# Altium footprint library Z0XW18.PcbLib: 1 footprints
Each footprint in its own frame and in the unit in brackets; x right, y up, seen from the top. Pads: shape width x height; smd on the part's side, far side on the other; paste and mask are expansions set on the pad; w line width, h text height; cw(c..) or ccw(c..) is an arc to the next point about the centre after c.
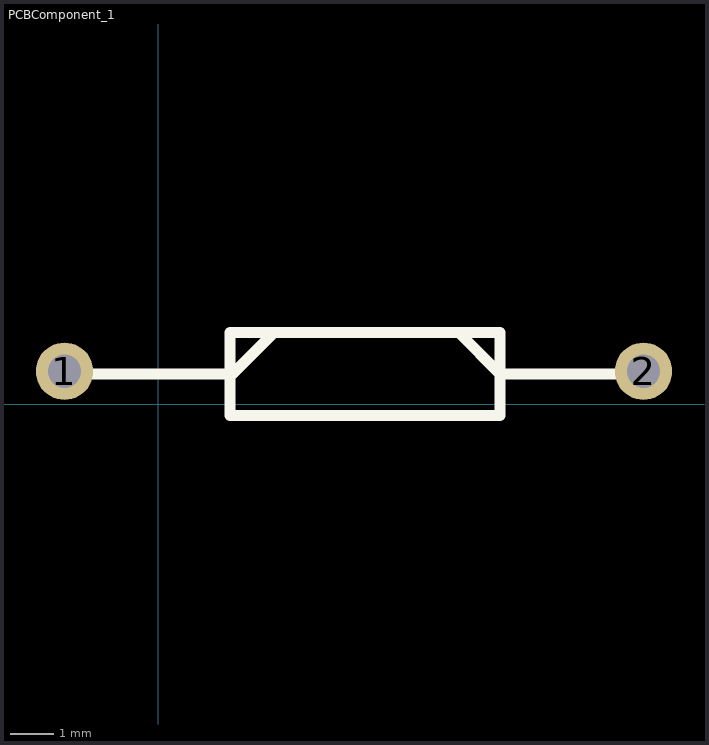
[diagram p0: the footprint, top view; thin cyan lines are the x and y axes]

## PCBComponent_1 [mil]
pads (2):
  round 52 hole 30: 1(-85,30) 2(440,30)
Top Overlay:
  lines w10: -72.5,27.5 65,27.5 67.5,27.5 105,65 ; 265,65 272.5,65 310,27.5 427.5,27.5 ; 65,-10 310,-10 310,65 65,65 65,-10